# EAGLE library part RV-8803-C7-32.768K-3PPM-TA-QA (library RV-8803-C7-32.768k-3PPM-TA-QA)
RV-8803-C7 8-Terminal Ceramic Leadless Chip Carrier [LCC8] Source: Datasheet <https://www.mouser.de/datasheet/2/530/RV_8803_C7-2308195.pdf>
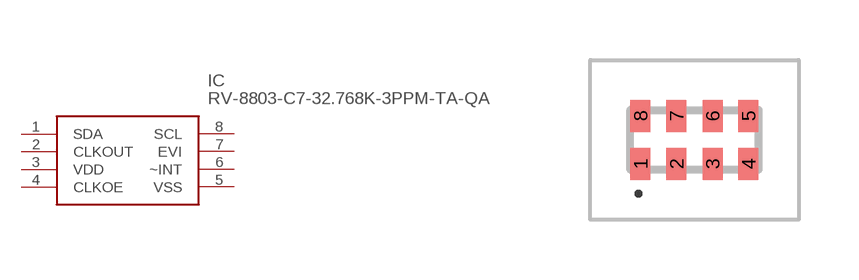
[diagram p0: symbol with the pads of RV8803C7; footprint RV8803C7]

Designator prefix IC

## RV-8803-C7-32.768K-3PPM-TA-QA (Description: RV-8803-C7 8-Terminal Ceramic Leadless Chip Carrier [LCC8]; Height: 0.8mm; Manufacturer_Name: Micro Crystal AG; Manufacturer_Part_Number: RV-8803-C7-32.768k-3PPM-TA-QA; Mouser_Part_Number: 428-203035-MG01; Mouser_Price-Stock: https://www.mouser.co.uk/ProductDetail/Micro-Crystal/RV-8803-C7-32.768k-3PPM-TA-QA?qs=7bTaA%2FLYtSb5zZOilbtzxw%3D%3D)  [RV8803C7]
1  SDA
2  CLKOUT
3  VDD
4  CLKOE
5  VSS
6  ~INT
7  EVI
8  SCL

## Footprint RV8803C7 (pad centres in mm)
SON-8
smd 0.5 x 0.8: 1 -1.35,-0.6; 2 -0.45,-0.6; 3 0.45,-0.6; 4 1.35,-0.6; 5 1.35,0.6; 6 0.45,0.6; 7 -0.45,0.6; 8 -1.35,0.6